# EAGLE library part EPF10K100A-BGA356 (library altera_SGQ)
EPF10K100 FLEX 10K family
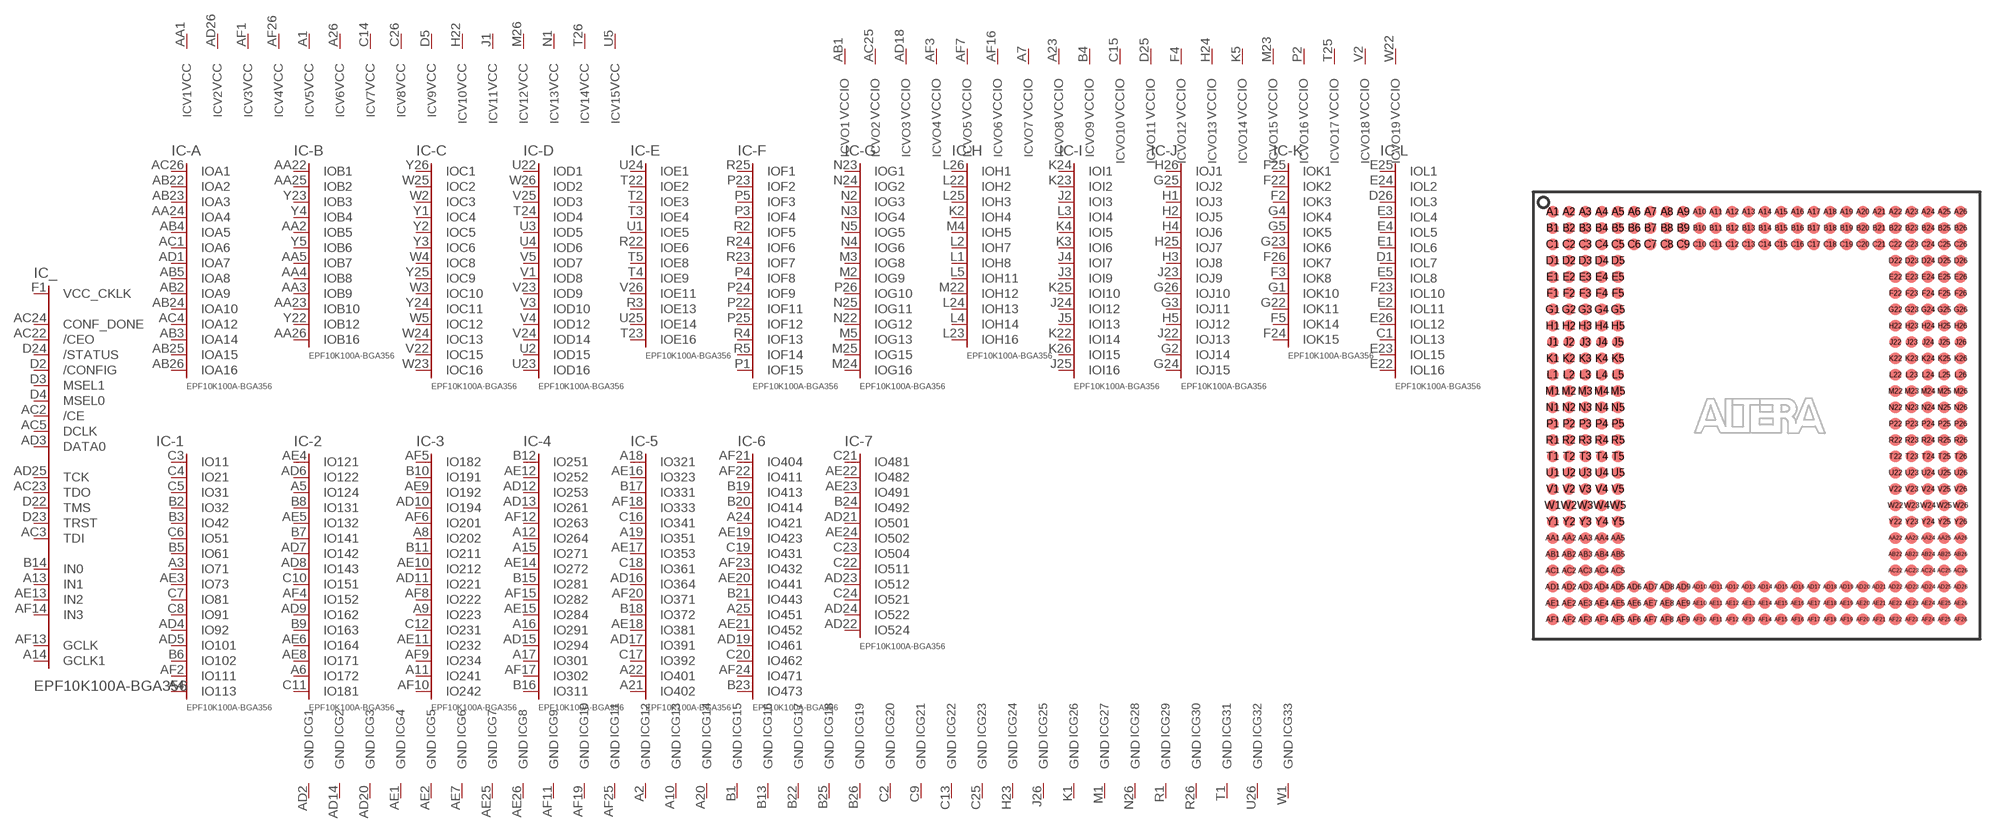
[diagram p2: symbol with the pads of BGA356; footprint BGA356]

Designator prefix IC; gates _=100B356C -A=100A16 -B=100B16 -C=100C16 -D=100D16 -E=100E16 -F=100F15 -G=100G16 -H=100H16 -I=100I16 -J=100J15 -L=100L16 -1=100-113 -2=100-181 -3=100-242 -4=100-311 -5=100-402 -6=100-473 -7=100-524 -K=100K15 G1=GNDINT G2=GNDINT G3=GNDINT G4=GNDINT G5=GNDINT G6=GNDINT G7=GNDINT G8=GNDINT G9=GNDINT G10=GNDINT G11=GNDINT G12=GNDINT G13=GNDINT G14=GNDINT G15=GNDINT G16=GNDINT G17=GNDINT G18=GNDINT G19=GNDINT G20=GNDINT G21=GNDINT G22=GNDINT G23=GNDINT G24=GNDINT G25=GNDINT G26=GNDINT G27=GNDINT G28=GNDINT G29=GNDINT G30=GNDINT G31=GNDINT G32=GNDINT G33=GNDINT V1=VCCINT V2=VCCINT V3=VCCINT V4=VCCINT V5=VCCINT V6=VCCINT V7=VCCINT V8=VCCINT V9=VCCINT V10=VCCINT V11=VCCINT V12=VCCINT V13=VCCINT V14=VCCINT V15=VCCINT VO1=VCCIO VO2=VCCIO VO3=VCCIO VO4=VCCIO VO5=VCCIO VO6=VCCIO VO7=VCCIO VO8=VCCIO VO9=VCCIO VO10=VCCIO VO11=VCCIO VO12=VCCIO VO13=VCCIO VO14=VCCIO VO15=VCCIO VO16=VCCIO VO17=VCCIO VO18=VCCIO VO19=VCCIO

## EPF10K100A-BGA356 (MPN: EPF10K100ABC356-1; OC_FARNELL: unknown; OC_NEWARK: 51R8777)  [BGA356]
A1  V5:VCC  pwr
A2  G12:GND  pwr
A3  -1:IO71
A4  -1:IO113
A5  -2:IO124
A6  -2:IO172
A7  VO7:VCCIO  pwr
A8  -3:IO202
A9  -3:IO223
A10  G13:GND  pwr
A11  -3:IO241
A12  -4:IO264
A13  _:IN1  in
A14  _:GCLK1  in
A15  -4:IO271
A16  -4:IO291
A17  -4:IO301
A18  -5:IO321
A19  -5:IO351
A20  G14:GND  pwr
A21  -5:IO402
A22  -5:IO401
A23  VO8:VCCIO  pwr
A24  -6:IO421
A25  -6:IO451
A26  V6:VCC  pwr
AA1  V1:VCC  pwr
AA2  -B:IOB5
AA3  -B:IOB9
AA4  -B:IOB8
AA5  -B:IOB7
AA22  -B:IOB1
AA23  -B:IOB10
AA24  -A:IOA4
AA25  -B:IOB2
AA26  -B:IOB16
AB1  VO1:VCCIO  pwr
AB2  -A:IOA9
AB3  -A:IOA14
AB4  -A:IOA5
AB5  -A:IOA8
AB22  -A:IOA2
AB23  -A:IOA3
AB24  -A:IOA10
AB25  -A:IOA15
AB26  -A:IOA16
AC1  -A:IOA6
AC2  _:/CE  in
AC3  _:TDI
AC4  -A:IOA12
AC5  _:DCLK  in
AC22  _:/CEO  in
AC23  _:TDO
AC24  _:CONF_DONE  in
AC25  VO2:VCCIO  pwr
AC26  -A:IOA1
AD1  -A:IOA7
AD2  G1:GND  pwr
AD3  _:DATA0  in
AD4  -1:IO92
AD5  -1:IO101
AD6  -2:IO122
AD7  -2:IO142
AD8  -2:IO143
AD9  -2:IO162
AD10  -3:IO194
AD11  -3:IO221
AD12  -4:IO253
AD13  -4:IO261
AD14  G2:GND  pwr
AD15  -4:IO294
AD16  -5:IO364
AD17  -5:IO391
AD18  VO3:VCCIO  pwr
AD19  -6:IO461
AD20  G3:GND  pwr
AD21  -7:IO501
AD22  -7:IO524
AD23  -7:IO512
AD24  -7:IO522
AD25  _:TCK
AD26  V2:VCC  pwr
AE1  G4:GND  pwr
AE2  G5:GND  pwr
AE3  -1:IO73
AE4  -2:IO121
AE5  -2:IO132
AE6  -2:IO164
AE7  G6:GND  pwr
AE8  -2:IO171
AE9  -3:IO192
AE10  -3:IO212
AE11  -3:IO232
AE12  -4:IO252
AE13  _:IN2  in
AE14  -4:IO272
AE15  -4:IO284
AE16  -5:IO323
AE17  -5:IO353
AE18  -5:IO381
AE19  -6:IO423
AE20  -6:IO441
AE21  -6:IO452
AE22  -7:IO482
AE23  -7:IO491
AE24  -7:IO502
AE25  G7:GND  pwr
AE26  G8:GND  pwr
AF1  V3:VCC  pwr
AF2  -1:IO111
AF3  VO4:VCCIO  pwr
AF4  -2:IO152
AF5  -3:IO182
AF6  -3:IO201
AF7  VO5:VCCIO  pwr
AF8  -3:IO222
AF9  -3:IO234
AF10  -3:IO242
AF11  G9:GND  pwr
AF12  -4:IO263
AF13  _:GCLK  in
AF14  _:IN3  in
AF15  -4:IO282
AF16  VO6:VCCIO  pwr
AF17  -4:IO302
AF18  -5:IO333
AF19  G10:GND  pwr
AF20  -5:IO371
AF21  -6:IO404
AF22  -6:IO411
AF23  -6:IO432
AF24  -6:IO471
AF25  G11:GND  pwr
AF26  V4:VCC  pwr
B1  G15:GND  pwr
B2  -1:IO32
B3  -1:IO42
B4  VO9:VCCIO  pwr
B5  -1:IO61
B6  -1:IO102
B7  -2:IO141
B8  -2:IO131
B9  -2:IO163
B10  -3:IO191
B11  -3:IO211
B12  -4:IO251
B13  G16:GND  pwr
B14  _:IN0  in
B15  -4:IO281
B16  -4:IO311
B17  -5:IO331
B18  -5:IO372
B19  -6:IO413
B20  -6:IO414
B21  -6:IO443
B22  G17:GND  pwr
B23  -6:IO473
B24  -7:IO492
B25  G18:GND  pwr
B26  G19:GND  pwr
C1  -L:IOL13
C2  G20:GND  pwr
C3  -1:IO11
C4  -1:IO21
C5  -1:IO31
C6  -1:IO51
C7  -1:IO81
C8  -1:IO91
C9  G21:GND  pwr
C10  -2:IO151
C11  -2:IO181
C12  -3:IO231
C13  G22:GND  pwr
C14  V7:VCC  pwr
C15  VO10:VCCIO  pwr
C16  -5:IO341
C17  -5:IO392
C18  -5:IO361
C19  -6:IO431
C20  -6:IO462
C21  -7:IO481
C22  -7:IO511
C23  -7:IO504
C24  -7:IO521
C25  G23:GND  pwr
C26  V8:VCC  pwr
D1  -L:IOL7
D2  _:/CONFIG  in
D3  _:MSEL1  in
D4  _:MSEL0  in
D5  V9:VCC  pwr
D22  _:TMS
D23  _:TRST
D24  _:/STATUS  in
D25  VO11:VCCIO  pwr
D26  -L:IOL3
E1  -L:IOL6
E2  -L:IOL11
E3  -L:IOL4
E4  -L:IOL5
E5  -L:IOL8
E22  -L:IOL16
E23  -L:IOL15
E24  -L:IOL2
E25  -L:IOL1
E26  -L:IOL12
F1  _:VCC_CKLK  pas
F2  -K:IOK3
F3  -K:IOK8
F4  VO12:VCCIO  pwr
F5  -K:IOK14
F22  -K:IOK2
F23  -L:IOL10
F24  -K:IOK15
F25  -K:IOK1
F26  -K:IOK7
G1  -K:IOK10
G2  -J:IOJ14
G3  -J:IOJ11
G4  -K:IOK4
G5  -K:IOK5
G22  -K:IOK11
G23  -K:IOK6
G24  -J:IOJ15
G25  -J:IOJ2
G26  -J:IOJ10
H1  -J:IOJ3
H2  -J:IOJ5
H3  -J:IOJ8
H4  -J:IOJ6
H5  -J:IOJ12
H22  V10:VCC  pwr
H23  G24:GND  pwr
H24  VO13:VCCIO  pwr
H25  -J:IOJ7
H26  -J:IOJ1
J1  V11:VCC  pwr
J2  -I:IOI3
J3  -I:IOI9
J4  -I:IOI7
J5  -I:IOI13
J22  -J:IOJ13
J23  -J:IOJ9
J24  -I:IOI12
J25  -I:IOI16
J26  G25:GND  pwr
K1  G26:GND  pwr
K2  -H:IOH4
K3  -I:IOI6
K4  -I:IOI5
K5  VO14:VCCIO  pwr
K22  -I:IOI14
K23  -I:IOI2
K24  -I:IOI1
K25  -I:IOI10
K26  -I:IOI15
L1  -H:IOH8
L2  -H:IOH7
L3  -I:IOI4
L4  -H:IOH14
L5  -H:IOH11
L22  -H:IOH2
L23  -H:IOH16
L24  -H:IOH13
L25  -H:IOH3
L26  -H:IOH1
M1  G27:GND  pwr
M2  -G:IOG9
M3  -G:IOG8
M4  -H:IOH5
M5  -G:IOG13
M22  -H:IOH12
M23  VO15:VCCIO  pwr
M24  -G:IOG16
M25  -G:IOG15
M26  V12:VCC  pwr
N1  V13:VCC  pwr
N2  -G:IOG3
N3  -G:IOG4
N4  -G:IOG6
N5  -G:IOG5
N22  -G:IOG12
N23  -G:IOG1
N24  -G:IOG2
N25  -G:IOG11
N26  G28:GND  pwr
P1  -F:IOF15
P2  VO16:VCCIO  pwr
P3  -F:IOF4
P4  -F:IOF8
P5  -F:IOF3
P22  -F:IOF11
P23  -F:IOF2
P24  -F:IOF9
P25  -F:IOF12
P26  -G:IOG10
R1  G29:GND  pwr
R2  -F:IOF5
R3  -E:IOE13
R4  -F:IOF13
R5  -F:IOF14
R22  -E:IOE6
R23  -F:IOF7
R24  -F:IOF6
R25  -F:IOF1
R26  G30:GND  pwr
T1  G31:GND  pwr
T2  -E:IOE3
T3  -E:IOE4
T4  -E:IOE9
T5  -E:IOE8
T22  -E:IOE2
T23  -E:IOE16
T24  -D:IOD4
T25  VO17:VCCIO  pwr
T26  V14:VCC  pwr
U1  -E:IOE5
U2  -D:IOD15
U3  -D:IOD5
U4  -D:IOD6
U5  V15:VCC  pwr
U22  -D:IOD1
U23  -D:IOD16
U24  -E:IOE1
U25  -E:IOE14
U26  G32:GND  pwr
V1  -D:IOD8
V2  VO18:VCCIO  pwr
V3  -D:IOD10
V4  -D:IOD12
V5  -D:IOD7
V22  -C:IOC15
V23  -D:IOD9
V24  -D:IOD14
V25  -D:IOD3
V26  -E:IOE11
W1  G33:GND  pwr
W2  -C:IOC3
W3  -C:IOC10
W4  -C:IOC8
W5  -C:IOC12
W22  VO19:VCCIO  pwr
W23  -C:IOC16
W24  -C:IOC13
W25  -C:IOC2
W26  -D:IOD2
Y1  -C:IOC4
Y2  -C:IOC5
Y3  -C:IOC6
Y4  -B:IOB4
Y5  -B:IOB6
Y22  -B:IOB12
Y23  -B:IOB3
Y24  -C:IOC11
Y25  -C:IOC9
Y26  -C:IOC1

## Footprint BGA356 (pad centres in mm)
Ball Grid Array
smd 0.9 x 0.9: A1 -15.875,15.875; A2 -14.605,15.875; A3 -13.335,15.875; A4 -12.065,15.875; A5 -10.795,15.875; A6 -9.525,15.875; A7 -8.255,15.875; A8 -6.985,15.875; A9 -5.715,15.875; A10 -4.445,15.875; A11 -3.175,15.875; A12 -1.905,15.875; A13 -0.635,15.875; A14 0.635,15.875; A15 1.905,15.875; A16 3.175,15.875; A17 4.445,15.875; A18 5.715,15.875; A19 6.985,15.875; A20 8.255,15.875; A21 9.525,15.875; A22 10.795,15.875; A23 12.065,15.875; A24 13.335,15.875; A25 14.605,15.875; A26 15.875,15.875; AA1 -15.875,-9.525; AA2 -14.605,-9.525; AA3 -13.335,-9.525; AA4 -12.065,-9.525; AA5 -10.795,-9.525; AA22 10.795,-9.525; AA23 12.065,-9.525; AA24 13.335,-9.525; AA25 14.605,-9.525; AA26 15.875,-9.525; AB1 -15.875,-10.795; AB2 -14.605,-10.795; AB3 -13.335,-10.795; AB4 -12.065,-10.795; AB5 -10.795,-10.795; AB22 10.795,-10.795; AB23 12.065,-10.795; AB24 13.335,-10.795; AB25 14.605,-10.795; AB26 15.875,-10.795; AC1 -15.875,-12.065; AC2 -14.605,-12.065; AC3 -13.335,-12.065; AC4 -12.065,-12.065; AC5 -10.795,-12.065; AC22 10.795,-12.065; AC23 12.065,-12.065; AC24 13.335,-12.065; AC25 14.605,-12.065; AC26 15.875,-12.065; AD1 -15.875,-13.335; AD2 -14.605,-13.335; AD3 -13.335,-13.335; AD4 -12.065,-13.335; AD5 -10.795,-13.335; AD6 -9.525,-13.335; AD7 -8.255,-13.335; AD8 -6.985,-13.335; AD9 -5.715,-13.335; AD10 -4.445,-13.335; AD11 -3.175,-13.335; AD12 -1.905,-13.335; AD13 -0.635,-13.335; AD14 0.635,-13.335; AD15 1.905,-13.335; AD16 3.175,-13.335; AD17 4.445,-13.335; AD18 5.715,-13.335; AD19 6.985,-13.335; AD20 8.255,-13.335; AD21 9.525,-13.335; AD22 10.795,-13.335; AD23 12.065,-13.335; AD24 13.335,-13.335; AD25 14.605,-13.335; AD26 15.875,-13.335; AE1 -15.875,-14.605; AE2 -14.605,-14.605; AE3 -13.335,-14.605; AE4 -12.065,-14.605; AE5 -10.795,-14.605; AE6 -9.525,-14.605; AE7 -8.255,-14.605; AE8 -6.985,-14.605; AE9 -5.715,-14.605; AE10 -4.445,-14.605; AE11 -3.175,-14.605; AE12 -1.905,-14.605; AE13 -0.635,-14.605; AE14 0.635,-14.605; AE15 1.905,-14.605; AE16 3.175,-14.605; AE17 4.445,-14.605; AE18 5.715,-14.605; AE19 6.985,-14.605; AE20 8.255,-14.605; AE21 9.525,-14.605; AE22 10.795,-14.605; AE23 12.065,-14.605; AE24 13.335,-14.605; AE25 14.605,-14.605; AE26 15.875,-14.605; AF1 -15.875,-15.875; AF2 -14.605,-15.875; AF3 -13.335,-15.875; AF4 -12.065,-15.875; AF5 -10.795,-15.875; AF6 -9.525,-15.875; AF7 -8.255,-15.875; AF8 -6.985,-15.875; AF9 -5.715,-15.875; AF10 -4.445,-15.875; AF11 -3.175,-15.875; AF12 -1.905,-15.875; AF13 -0.635,-15.875; AF14 0.635,-15.875; AF15 1.905,-15.875; AF16 3.175,-15.875; AF17 4.445,-15.875; AF18 5.715,-15.875; AF19 6.985,-15.875; AF20 8.255,-15.875; AF21 9.525,-15.875; AF22 10.795,-15.875; AF23 12.065,-15.875; AF24 13.335,-15.875; AF25 14.605,-15.875; AF26 15.875,-15.875; B1 -15.875,14.605; B2 -14.605,14.605; B3 -13.335,14.605; B4 -12.065,14.605; B5 -10.795,14.605; B6 -9.525,14.605; B7 -8.255,14.605; B8 -6.985,14.605; B9 -5.715,14.605; B10 -4.445,14.605; B11 -3.175,14.605; B12 -1.905,14.605; B13 -0.635,14.605; B14 0.635,14.605; B15 1.905,14.605; B16 3.175,14.605; B17 4.445,14.605; B18 5.715,14.605; B19 6.985,14.605; B20 8.255,14.605; B21 9.525,14.605; B22 10.795,14.605; B23 12.065,14.605; B24 13.335,14.605; B25 14.605,14.605; B26 15.875,14.605; C1 -15.875,13.335; C2 -14.605,13.335; C3 -13.335,13.335; C4 -12.065,13.335; C5 -10.795,13.335; C6 -9.525,13.335; C7 -8.255,13.335; C8 -6.985,13.335; C9 -5.715,13.335; C10 -4.445,13.335; C11 -3.175,13.335; C12 -1.905,13.335; C13 -0.635,13.335; C14 0.635,13.335; C15 1.905,13.335; C16 3.175,13.335; C17 4.445,13.335; C18 5.715,13.335; C19 6.985,13.335; C20 8.255,13.335; C21 9.525,13.335; C22 10.795,13.335; C23 12.065,13.335; C24 13.335,13.335; C25 14.605,13.335; C26 15.875,13.335; D1 -15.875,12.065; D2 -14.605,12.065; D3 -13.335,12.065; D4 -12.065,12.065; D5 -10.795,12.065; D22 10.795,12.065; D23 12.065,12.065; D24 13.335,12.065; D25 14.605,12.065; D26 15.875,12.065; E1 -15.875,10.795; E2 -14.605,10.795; E3 -13.335,10.795; E4 -12.065,10.795; E5 -10.795,10.795; E22 10.795,10.795; E23 12.065,10.795; E24 13.335,10.795; E25 14.605,10.795; E26 15.875,10.795; F1 -15.875,9.525; F2 -14.605,9.525; F3 -13.335,9.525; F4 -12.065,9.525; F5 -10.795,9.525; F22 10.795,9.525; F23 12.065,9.525; F24 13.335,9.525; F25 14.605,9.525; F26 15.875,9.525; G1 -15.875,8.255; G2 -14.605,8.255; G3 -13.335,8.255; G4 -12.065,8.255; G5 -10.795,8.255; G22 10.795,8.255; G23 12.065,8.255; G24 13.335,8.255; G25 14.605,8.255; G26 15.875,8.255; H1 -15.875,6.985; H2 -14.605,6.985; H3 -13.335,6.985; H4 -12.065,6.985; H5 -10.795,6.985; H22 10.795,6.985; H23 12.065,6.985; H24 13.335,6.985; H25 14.605,6.985; H26 15.875,6.985; J1 -15.875,5.715; J2 -14.605,5.715; J3 -13.335,5.715; J4 -12.065,5.715; J5 -10.795,5.715; J22 10.795,5.715; J23 12.065,5.715; J24 13.335,5.715; J25 14.605,5.715; J26 15.875,5.715; K1 -15.875,4.445; K2 -14.605,4.445; K3 -13.335,4.445; K4 -12.065,4.445; K5 -10.795,4.445; K22 10.795,4.445; K23 12.065,4.445; K24 13.335,4.445; K25 14.605,4.445; K26 15.875,4.445; L1 -15.875,3.175; L2 -14.605,3.175; L3 -13.335,3.175; L4 -12.065,3.175; L5 -10.795,3.175; L22 10.795,3.175; L23 12.065,3.175; L24 13.335,3.175; L25 14.605,3.175; L26 15.875,3.175; M1 -15.875,1.905; M2 -14.605,1.905; M3 -13.335,1.905; M4 -12.065,1.905; M5 -10.795,1.905; M22 10.795,1.905; M23 12.065,1.905; M24 13.335,1.905; M25 14.605,1.905; M26 15.875,1.905; N1 -15.875,0.635; N2 -14.605,0.635; N3 -13.335,0.635; N4 -12.065,0.635; N5 -10.795,0.635; N22 10.795,0.635; N23 12.065,0.635; N24 13.335,0.635; N25 14.605,0.635; N26 15.875,0.635; P1 -15.875,-0.635; P2 -14.605,-0.635; P3 -13.335,-0.635; P4 -12.065,-0.635; P5 -10.795,-0.635; P22 10.795,-0.635; P23 12.065,-0.635; P24 13.335,-0.635; P25 14.605,-0.635; P26 15.875,-0.635; R1 -15.875,-1.905; R2 -14.605,-1.905; R3 -13.335,-1.905; R4 -12.065,-1.905; R5 -10.795,-1.905; R22 10.795,-1.905; R23 12.065,-1.905; R24 13.335,-1.905; R25 14.605,-1.905; R26 15.875,-1.905; T1 -15.875,-3.175; T2 -14.605,-3.175; T3 -13.335,-3.175; T4 -12.065,-3.175; T5 -10.795,-3.175; T22 10.795,-3.175; T23 12.065,-3.175; T24 13.335,-3.175; T25 14.605,-3.175; T26 15.875,-3.175; U1 -15.875,-4.445; U2 -14.605,-4.445; U3 -13.335,-4.445; U4 -12.065,-4.445; U5 -10.795,-4.445; U22 10.795,-4.445; U23 12.065,-4.445; U24 13.335,-4.445; U25 14.605,-4.445; U26 15.875,-4.445; V1 -15.875,-5.715; V2 -14.605,-5.715; V3 -13.335,-5.715; V4 -12.065,-5.715; V5 -10.795,-5.715; V22 10.795,-5.715; V23 12.065,-5.715; V24 13.335,-5.715; V25 14.605,-5.715; V26 15.875,-5.715; W1 -15.875,-6.985; W2 -14.605,-6.985; W3 -13.335,-6.985; W4 -12.065,-6.985; W5 -10.795,-6.985; W22 10.795,-6.985; W23 12.065,-6.985; W24 13.335,-6.985; W25 14.605,-6.985; W26 15.875,-6.985; Y1 -15.875,-8.255; Y2 -14.605,-8.255; Y3 -13.335,-8.255; Y4 -12.065,-8.255; Y5 -10.795,-8.255; Y22 10.795,-8.255; Y23 12.065,-8.255; Y24 13.335,-8.255; Y25 14.605,-8.255; Y26 15.875,-8.255